# Altium schematic symbol library 6-Pin Through Hole Header, pitch 2.54.SchLib: 1 symbol
Pins are listed as number, name and electrical type; pins without a type are passive.

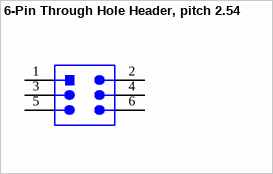
[diagram p0: symbol 6-Pin Through Hole Header, pitch 2.54]

## 6-Pin Through Hole Header, pitch 2.54
designator P?, comment TSW-103-08-L-D
Male Header, Pitch 2.54 mm, 2 x 3 Position, Height 8.38 mm, Tail Length 5.08 mm, -55 to 125 degC, RoHS, Bulk; RoHSCompliant: true; Min Operating Temperature: -55 degC; Lead Pitch: 2.54 mm; PackageReference: TSW-103-08-L-D; Mounting Technology: Through Hole; DatasheetVersion: 04/2012; Mount: Through Hole; Max Operating Temperature: 125 degC; PackageDescription: Male Header, Pitch 2.54 mm, 2 x 3 Position, Height 8.38 mm, Tail Length 5.08 mm
footprint SMTC-TSW-103-08-L-D_V (CONN, 6-Leads, Body 7.62x5.08mm, Pitch 2.54mm)
pins: 1, 2, 3, 4, 5, 6